# EAGLE library part XBEE (library GW-devices)
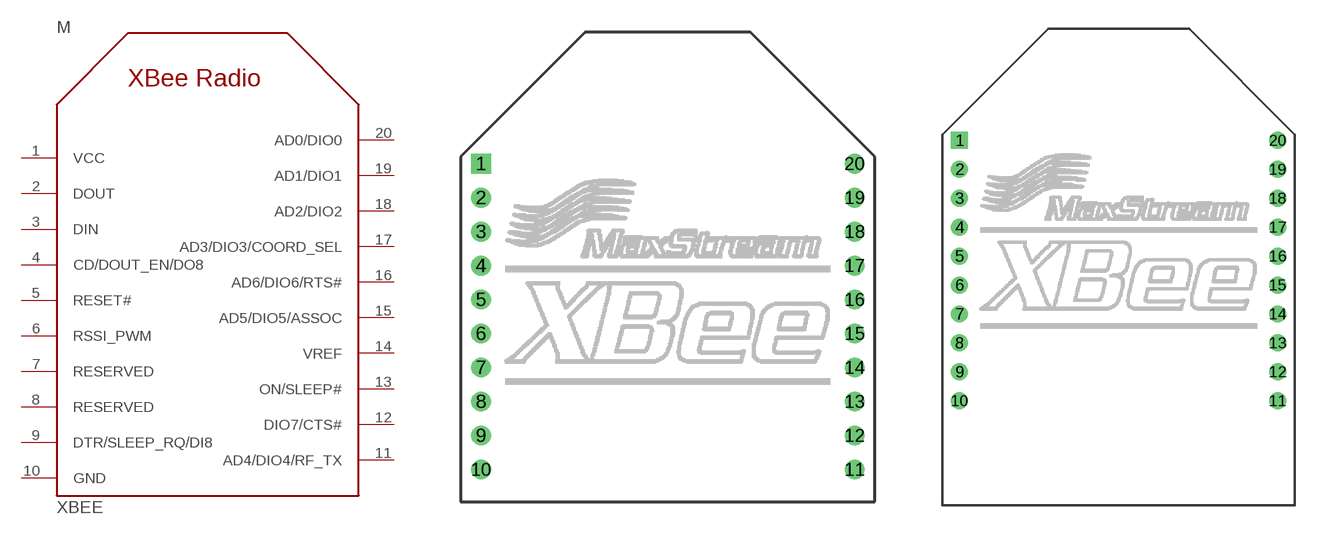
[diagram p8: symbol with the pads of XBEE; footprints XBEE, XBEE-PRO]

Designator prefix M

## XBEE  [XBEE]
1  VCC  pwr
2  DOUT  out
3  DIN  in
4  CD/DOUT_EN/DO8  out
5  RESET#  in
6  RSSI_PWM  out
7  RESERVED
8  RESERVED
9  DTR/SLEEP_RQ/DI8  in
10  GND  pwr
11  AD4/DIO4/RF_TX
12  DIO7/CTS#
13  ON/SLEEP#  out
14  VREF  in
15  AD5/DIO5/ASSOC
16  AD6/DIO6/RTS#
17  AD3/DIO3/COORD_SEL
18  AD2/DIO2
19  AD1/DIO1
20  AD0/DIO0

## XBEE-PRO  [XBEE-PRO]
Pads as for XBEE

## XBEEXBEE-TO-DIP  [XBEE-TO-DIP]
Pads as for XBEE

## Footprint XBEE (pad centres in mm)
drill 0.66 square: 1 -11,9
drill 0.66: 2 -11,7; 3 -11,5; 4 -11,3; 5 -11,1; 6 -11,-1; 7 -11,-3; 8 -11,-5; 9 -11,-7; 10 -11,-9; 11 11,-9; 12 11,-7; 13 11,-5; 14 11,-3; 15 11,-1; 16 11,1; 17 11,3; 18 11,5; 19 11,7; 20 11,9

## Footprint XBEE-PRO (pad centres in mm)
drill 0.66 square: 1 -11,9
drill 0.66: 2 -11,7; 3 -11,5; 4 -11,3; 5 -11,1; 6 -11,-1; 7 -11,-3; 8 -11,-5; 9 -11,-7; 10 -11,-9; 11 11,-9; 12 11,-7; 13 11,-5; 14 11,-3; 15 11,-1; 16 11,1; 17 11,3; 18 11,5; 19 11,7; 20 11,9

## Footprint XBEE-TO-DIP (pad centres in mm)
drill 1.016: 1 -10.16,-7.62; 2 -7.62,-7.62; 3 -5.08,-7.62; 4 -2.54,-7.62; 5 0,-7.62; 6 2.54,-7.62; 7 5.08,-7.62; 8 7.62,-7.62; 9 10.16,-7.62; 10 12.7,-7.62; 11 12.7,5.08; 12 10.16,5.08; 13 7.62,5.08; 14 5.08,5.08; 15 2.54,5.08; 16 0,5.08; 17 -2.54,5.08; 18 -5.08,5.08; 19 -7.62,5.08; 20 -10.16,5.08